# Altium schematic symbol library Analog_Switch.SchLib: 124 symbols (part 2 of 2)
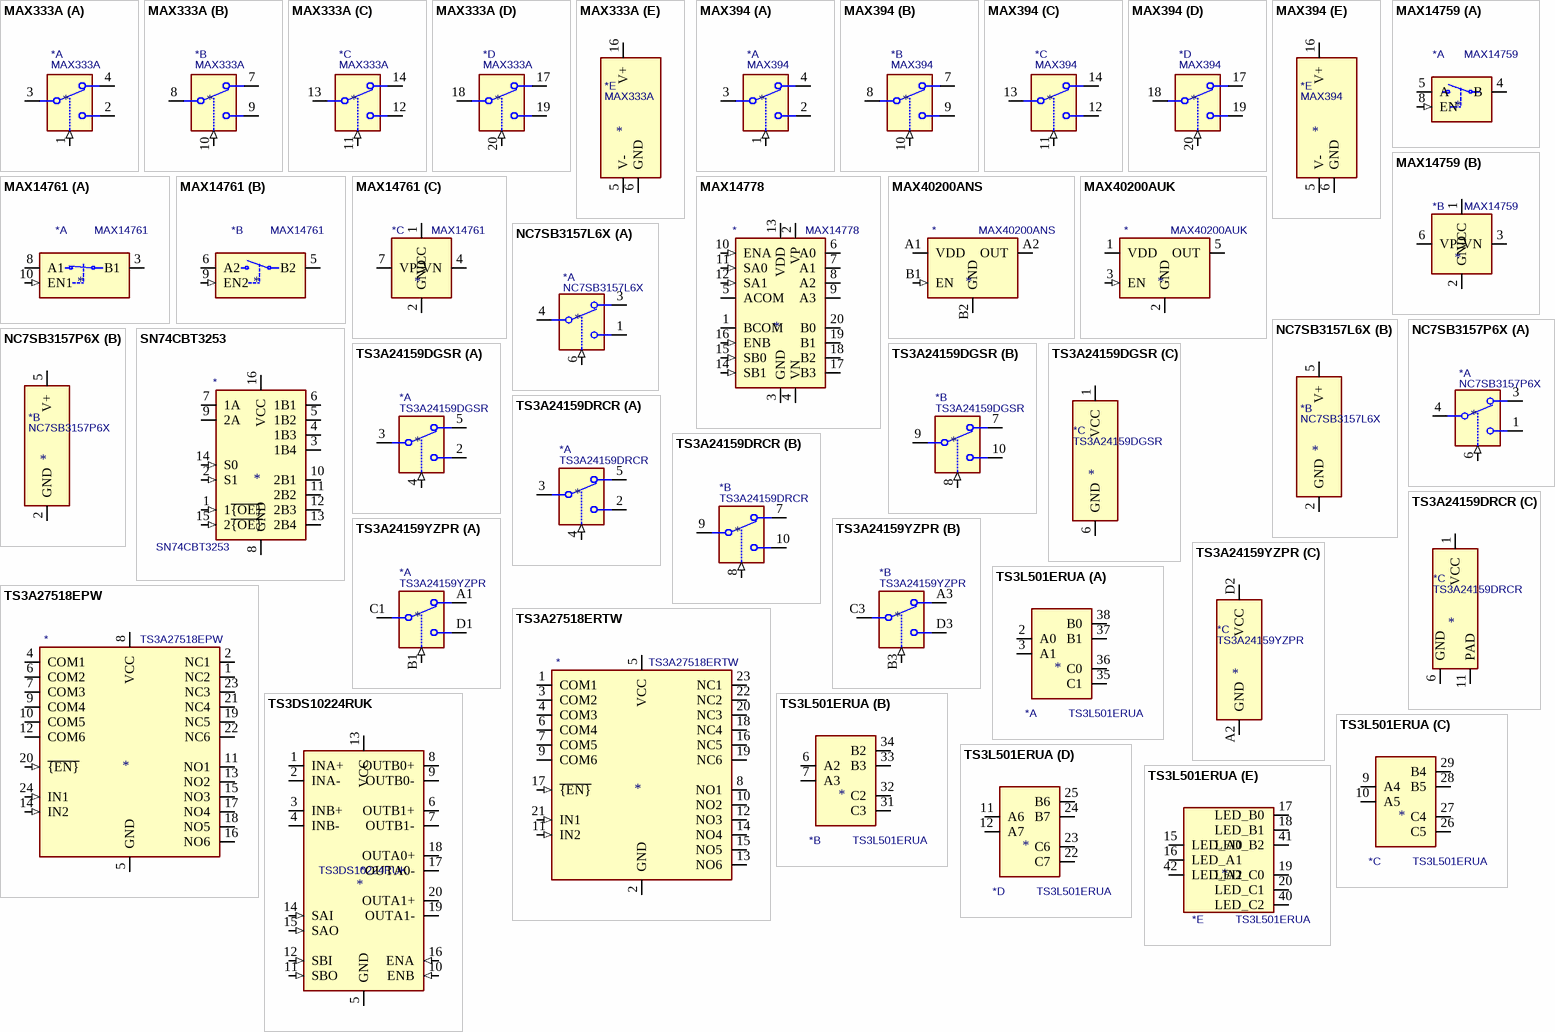
[diagram p9: symbols MAX333A to TS3L501ERUA]

## MAX14759
designator *  value MAX14759
ki_keywords: analog switch low resistance above below rails; ki_description: Above- and Below-the-Rails Low On-Resistance Analog Switches, max 2 Ohms On-Resistance, TDFN-8; ki_fp_filters: DFN*3x3mm*P0.65mm*; Footprint: Package_DFN_QFN:DFN-8-1EP_3x3mm_P0.65mm_EP1.55x2.4mm; Supplier: https://datasheets.maximintegrated.com/en/ds/MAX14759-MAX14763.pdf
footprint DFN-8-1EP_3x3mm_P0.65mm_EP1.55x2.4mm
part A pins: 4 B, 5 A, 8 EN (in)
part B pins: 1 VCC (power), 2 GND (power), 3 VN, 6 VP, 7 NC (in) hidden, 9 VN hidden

## MAX14761
designator *  value MAX14761
ki_keywords: analog switch low resistance above below rails; ki_description: Above- and Below-the-Rails Low On-Resistance Analog Switches, max 2 Ohm On resistor, TDFN-10; ki_fp_filters: DFN*3x3mm*P0.5mm*; Footprint: Package_DFN_QFN:DFN-10-1EP_3x3mm_P0.5mm_EP1.55x2.48mm; Supplier: https://datasheets.maximintegrated.com/en/ds/MAX14759-MAX14763.pdf
footprint DFN-10-1EP_3x3mm_P0.5mm_EP1.55x2.48mm
part A pins: 3 B1, 8 A1, 10 EN1 (in)
part B pins: 5 B2, 6 A2, 9 EN2 (in)
part C pins: 1 VCC (power), 2 GND (power), 4 VN, 7 VP, 11 VN hidden

## MAX14778
designator *  value MAX14778
ki_keywords: Analog Differential Multiplexer; ki_description: Dual +-25V Above- and Below-the-Rails 4:1 Analog Multiplexer, TQFN-20; ki_fp_filters: TQFN*1EP*5x5mm*P0.65mm*; Footprint: Package_DFN_QFN:TQFN-20-1EP_5x5mm_P0.65mm_EP3.1x3.1mm; Supplier: https://datasheets.maximintegrated.com/en/ds/MAX14778.pdf
footprint TQFN-20-1EP_5x5mm_P0.65mm_EP3.1x3.1mm
pins: 1 BCOM, 2 VP, 3 GND (power), 4 VN, 5 ACOM, 6 A0, 7 A1, 8 A2, 9 A3, 10 ENA (in), 11 SA0 (in), 12 SA1 (in), 13 VDD (power), 14 SB1 (in), 15 SB0 (in), 16 ENB (in), 17 B3, 18 B2, 19 B1, 20 B0, 21 VN hidden

## MAX40200ANS
designator *  value MAX40200ANS
ki_keywords: current switch; ki_description: Ideal Diode, Ultra-Low Voltage Drop, 1.5-5.5V, 1A, WLP-4; ki_fp_filters: WLP*0.73x0.73mm*Layout2x2*P0.35mm*; Footprint: Package_BGA:WLP-4_0.73x0.73mm_Layout2x2_P0.35mm_Ball0.22mm_Pad0.2mm_NSMD; Supplier: https://datasheets.maximintegrated.com/en/ds/MAX40200.pdf
footprint WLP-4_0.73x0.73mm_Layout2x2_P0.35mm_Ball0.22mm_Pad0.2mm_NSMD
pins: A1 VDD (power), A2 OUT, B1 EN (in), B2 GND (power)

## MAX40200AUK
designator *  value MAX40200AUK
ki_keywords: current switch; ki_description: Ideal Diode, Ultra-Low Voltage Drop, 1.5-5.5V, 1A, SOT-23-5; ki_fp_filters: SOT?23*; Footprint: Package_TO_SOT_SMD:SOT-23-5; Supplier: https://datasheets.maximintegrated.com/en/ds/MAX40200.pdf
footprint SOT-23-5
pins: 1 VDD (power), 2 GND (power), 3 EN (in), 4 NC (in) hidden, 5 OUT

## NC7SB3157L6X
designator *  value NC7SB3157L6X
ki_keywords: CMOS Analog Switch; ki_description: Single SPDT Low-Voltage Analog Switch or 2:1 Multiplexer/De-Multiplexer Bus Switch, 10Ohm Ron, MicroPak-6; ki_fp_filters: Fairchild*MicroPak*1.0x1.45mm*P0.5mm*; Footprint: Package_SON:Fairchild_MicroPak-6_1.0x1.45mm_P0.5mm; Supplier: https://www.onsemi.com/pub/Collateral/NC7SB3157-D.PDF
footprint Fairchild_MicroPak-6_1.0x1.45mm_P0.5mm
part A pins: 1, 3, 4, 6 (in)
part B pins: 2 GND (power), 5 V+ (power)

## NC7SB3157P6X
designator *  value NC7SB3157P6X
ki_keywords: CMOS Analog Switch; ki_description: Single SPDT Low-Voltage Analog Switch or 2:1 Multiplexer/De-Multiplexer Bus Switch, 10Ohm Ron, SC-70-6; ki_fp_filters: *SC?70*; Footprint: Package_TO_SOT_SMD:SOT-363_SC-70-6; Supplier: https://www.onsemi.com/pub/Collateral/NC7SB3157-D.PDF
footprint SOT-363_SC-70-6
part A pins: 1, 3, 4, 6 (in)
part B pins: 2 GND (power), 5 V+ (power)

## SN74CBT3253
designator *  value SN74CBT3253
ki_keywords: TTL Analog Multiplexer; ki_description: Dual 1 to 4 Analog Multiplexer; ki_fp_filters: SOIC*3.9x9.9mm*P1.27mm* TSSOP*4.4x5mm*P0.65mm* SSOP*5.3x6.2mm*P0.65mm*; Supplier: http://www.ti.com/lit/gpn/sn74cbt3253
pins: 1 1~{{OE}} (in), 2 S1 (in), 3 1B4 (io), 4 1B3 (io), 5 1B2 (io), 6 1B1 (io), 7 1A (io), 8 GND (power), 9 2A (io), 10 2B1 (io), 11 2B2 (io), 12 2B3 (io), 13 2B4 (io), 14 S0 (in), 15 2~{{OE}} (in), 16 VCC (power)

## TS3A24159DGSR
designator *  value TS3A24159DGSR
ki_keywords: switch analog SPDT; ki_description: Dual SPDT 0.3Ω Bidirectional Analog Switch, TSSOP-10; ki_fp_filters: *SSOP*3x3mm*P0.5mm*; Footprint: Package_SO:TSSOP-10_3x3mm_P0.5mm; Supplier: http://www.ti.com/lit/ds/symlink/ts3a24159.pdf
footprint TSSOP-10_3x3mm_P0.5mm
part A pins: 2, 3, 4 (in), 5
part B pins: 7, 8 (in), 9, 10
part C pins: 1 VCC (power), 6 GND (power)

## TS3A24159DRCR
designator *  value TS3A24159DRCR
ki_keywords: switch analog SPDT; ki_description: Dual SPDT 0.3Ω Bidirectional Analog Switch, VSON-10; ki_fp_filters: Texas*S?PVSON?N10*; Footprint: Package_SON:Texas_S-PVSON-N10; Supplier: http://www.ti.com/lit/ds/symlink/ts3a24159.pdf
footprint Texas_S-PVSON-N10
part A pins: 2, 3, 4 (in), 5
part B pins: 7, 8 (in), 9, 10
part C pins: 1 VCC (power), 6 GND (power), 11 PAD

## TS3A24159YZPR
designator *  value TS3A24159YZPR
ki_keywords: switch analog SPDT; ki_description: Dual SPDT 0.3Ω Bidirectional Analog Switch, DSBGA-10; ki_fp_filters: Texas*DSBGA*1.36x1.86mm*Layout3x4*P0.5mm*; Footprint: Package_BGA:Texas_DSBGA-10_1.36x1.86mm_Layout3x4_P0.5mm; Supplier: http://www.ti.com/lit/ds/symlink/ts3a24159.pdf
footprint Texas_DSBGA-10_1.36x1.86mm_Layout3x4_P0.5mm
part A pins: A1, B1 (in), C1, D1
part B pins: A3, B3 (in), C3, D3
part C pins: A2 GND (power), D2 VCC (power)

## TS3A27518EPW
designator *  value TS3A27518EPW
ki_keywords: SPI qSPI multiplexer demux; ki_description: 6-channel analog mux, TSSOP-24; ki_fp_filters: TSSOP*4.4x7.8mm*P0.65mm*; Footprint: Package_SO:TSSOP-24_4.4x7.8mm_P0.65mm; Supplier: http://www.ti.com/lit/ds/symlink/ts3a27518e.pdf
footprint TSSOP-24_4.4x7.8mm_P0.65mm
pins: 1 NC2 (io), 2 NC1 (io), 3 N.C. (in) hidden, 4 COM1 (io), 5 GND (power), 6 COM2 (io), 7 COM3 (io), 8 VCC (power), 9 COM4 (io), 10 COM5 (io), 11 NO1 (io), 12 COM6 (io), 13 NO2 (io), 14 IN2 (in), 15 NO3 (io), 16 NO6 (io), 17 NO4 (io), 18 NO5 (io), 19 NC5 (io), 20 ~{{EN}} (in), 21 NC4 (io), 22 NC6 (io), 23 NC3 (io), 24 IN1 (in)

## TS3A27518ERTW
designator *  value TS3A27518ERTW
ki_keywords: SPI qSPI multiplexer demux; ki_description: 6-channel analog mux, WQFN-24; ki_fp_filters: WQFN*4x4mm*P0.5mm*; Footprint: Package_DFN_QFN:WQFN-24-1EP_4x4mm_P0.5mm_EP2.6x2.6mm; Supplier: http://www.ti.com/lit/ds/symlink/ts3a27518e.pdf
footprint WQFN-24-1EP_4x4mm_P0.5mm_EP2.6x2.6mm
pins: 1 COM1 (io), 2 GND (power), 3 COM2 (io), 4 COM3 (io), 5 VCC (power), 6 COM4 (io), 7 COM5 (io), 8 NO1 (io), 9 COM6 (io), 10 NO2 (io), 11 IN2 (in), 12 NO3 (io), 13 NO6 (io), 14 NO4 (io), 15 NO5 (io), 16 NC5 (io), 17 ~{{EN}} (in), 18 NC4 (io), 19 NC6 (io), 20 NC3 (io), 21 IN1 (in), 22 NC2 (io), 23 NC1 (io), 24 N.C. (in) hidden, 25 GND hidden

## TS3DS10224RUK
designator *  value TS3DS10224RUK
ki_keywords: multiplexer demultiplexer 1:4 differential; ki_description: High-Speed Differential Crosspoint, WQFN-20; ki_fp_filters: WQFN*1EP*3x3mm*P0.4mm*; Footprint: Package_DFN_QFN:WQFN-20-1EP_3x3mm_P0.4mm_EP1.7x1.7mm_ThermalVias; Supplier: http://www.ti.com/lit/ds/symlink/ts3ds10224.pdf
footprint WQFN-20-1EP_3x3mm_P0.4mm_EP1.7x1.7mm_ThermalVias
pins: 1 INA+ (io), 2 INA- (io), 3 INB+ (io), 4 INB- (io), 5 GND (power), 6 OUTB1+ (io), 7 OUTB1- (io), 8 OUTB0+ (io), 9 OUTB0- (io), 10 ENB (in), 11 SBO (in), 12 SBI (in), 13 VCC (power), 14 SAI (in), 15 SAO (in), 16 ENA (in), 17 OUTA0- (io), 18 OUTA0+ (io), 19 OUTA1- (io), 20 OUTA1+ (io)

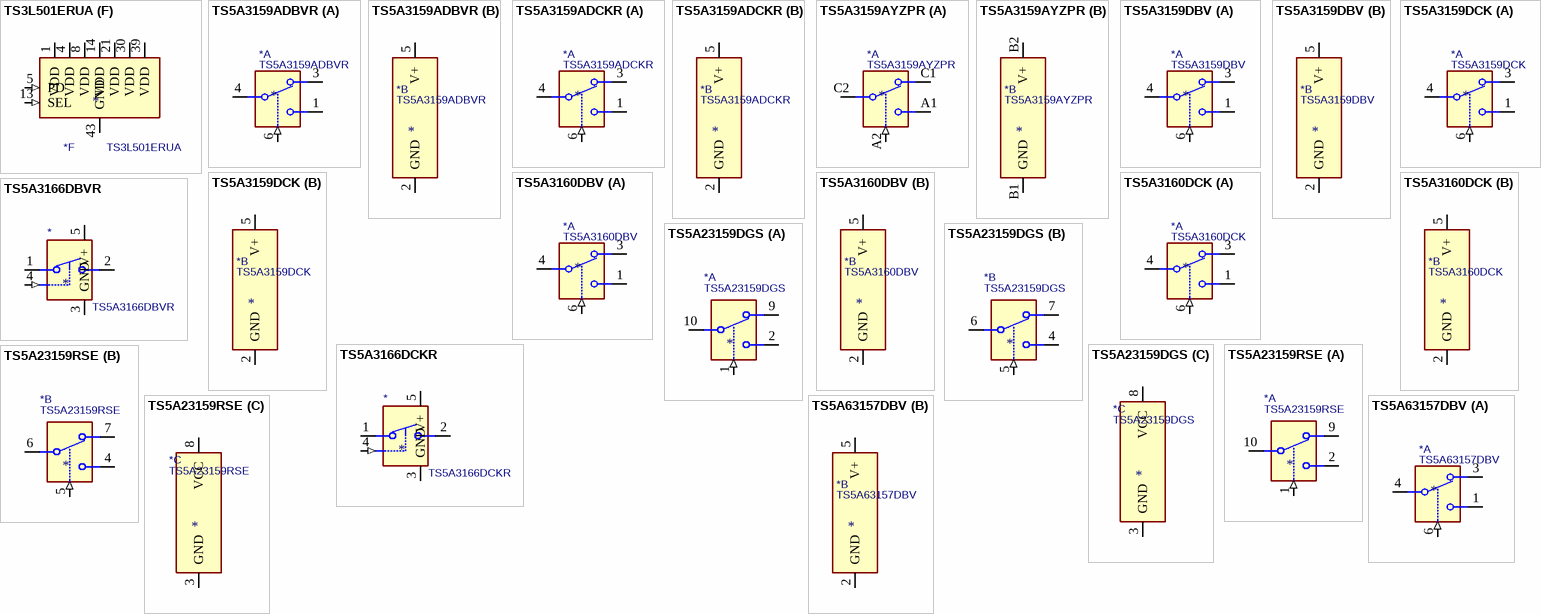
[diagram p8: symbols TS3L501ERUA to TS5A63157DBV]

## TS3L501ERUA
designator *  value TS3L501ERUA
ki_keywords: gbit base-t lvds lvpecl video; ki_description: 8-Channel SPDT/16-Bit to 8-Bit Multiplexer and Demultiplexer, Ethernet LAN Switch With Power-Down Mode, WQFN-42; ki_fp_filters: WQFN*1EP*3.5x9mm*P0.5mm*; Footprint: Package_DFN_QFN:WQFN-42-1EP_3.5x9mm_P0.5mm_EP2.05x7.55mm; Supplier: http://www.ti.com/lit/ds/symlink/ts3l501e.pdf
footprint WQFN-42-1EP_3.5x9mm_P0.5mm_EP2.05x7.55mm
part A pins: 2 A0 (io), 3 A1 (io), 35 C1 (io), 36 C0 (io), 37 B1 (io), 38 B0 (io)
part B pins: 6 A2 (io), 7 A3 (io), 31 C3 (io), 32 C2 (io), 33 B3 (io), 34 B2 (io)
part C pins: 9 A4 (io), 10 A5 (io), 26 C5 (io), 27 C4 (io), 28 B5 (io), 29 B4 (io)
part D pins: 11 A6 (io), 12 A7 (io), 22 C7 (io), 23 C6 (io), 24 B7 (io), 25 B6 (io)
part E pins: 15 LED_A0 (io), 16 LED_A1 (io), 17 LED_B0 (io), 18 LED_B1 (io), 19 LED_C0 (io), 20 LED_C1 (io), 40 LED_C2 (io), 41 LED_B2 (io), 42 LED_A2 (io)
part F pins: 1 VDD (power), 4 VDD (power), 5 PD (in), 8 VDD (power), 13 SEL (in), 14 VDD (power), 21 VDD (power), 30 VDD (power), 39 VDD (power), 43 GND (power)

## TS5A3159ADBVR
designator *  value TS5A3159ADBVR
ki_keywords: Analog Switch; ki_description: Single SPDT Analog Switch, 1.65-V to 5.5-V Single-Supply Operation, 1Ohm Ron, SOT-23-6; ki_fp_filters: SOT?23*; Footprint: Package_TO_SOT_SMD:SOT-23-6; Supplier: http://www.ti.com/lit/ds/symlink/ts5a3159a.pdf
footprint SOT-23-6
part A pins: 1, 3, 4, 6 (in)
part B pins: 2 GND (power), 5 V+ (power)

## TS5A3159ADCKR
designator *  value TS5A3159ADCKR
ki_keywords: Analog Switch; ki_description: Single SPDT Analog Switch, 1.65-V to 5.5-V Single-Supply Operation, 1Ohm Ron, SC-70-6; ki_fp_filters: *SC?70*; Footprint: Package_TO_SOT_SMD:SOT-363_SC-70-6; Supplier: http://www.ti.com/lit/ds/symlink/ts5a3159a.pdf
footprint SOT-363_SC-70-6
part A pins: 1, 3, 4, 6 (in)
part B pins: 2 GND (power), 5 V+ (power)

## TS5A3159AYZPR
designator *  value TS5A3159AYZPR
ki_keywords: Analog Switch; ki_description: Single SPDT Analog Switch, 1.65-V to 5.5-V Single-Supply Operation, 1Ohm Ron, DSBGA-6; ki_fp_filters: Texas*DSBGA*0.9x1.4mm*2x3*P0.5mm*; Footprint: Package_BGA:Texas_DSBGA-6_0.9x1.4mm_Layout2x3_P0.5mm; Supplier: http://www.ti.com/lit/ds/symlink/ts5a3159a.pdf
footprint Texas_DSBGA-6_0.9x1.4mm_Layout2x3_P0.5mm
part A pins: A1, A2 (in), C1, C2
part B pins: B1 GND (power), B2 V+ (power)

## TS5A3159DBV
designator *  value TS5A3159DBV
ki_keywords: Analog Switch; ki_description: Single SPDT Analog Switch, 1.65-V to 5.5-V Single-Supply Operation, 1Ohm Ron, SOT-23-6; ki_fp_filters: SOT?23*; Footprint: Package_TO_SOT_SMD:SOT-23-6; Supplier: http://www.ti.com/lit/ds/symlink/ts5a3159.pdf
footprint SOT-23-6
part A pins: 1, 3, 4, 6 (in)
part B pins: 2 GND (power), 5 V+ (power)

## TS5A3159DCK
designator *  value TS5A3159DCK
ki_keywords: Analog Switch SPDT; ki_description: Single SPDT Analog Switch, 1.65-V to 5.5-V Single-Supply Operation, 1Ohm Ron, SC-70-6; ki_fp_filters: *SC?70*; Footprint: Package_TO_SOT_SMD:SOT-363_SC-70-6; Supplier: http://www.ti.com/lit/ds/symlink/ts5a3159.pdf
footprint SOT-363_SC-70-6
part A pins: 1, 3, 4, 6 (in)
part B pins: 2 GND (power), 5 V+ (power)

## TS5A3160DBV
designator *  value TS5A3160DBV
ki_keywords: Analog Switch; ki_description: Single SPDT Analog Switch, 1.65-V to 5.5-V Single-Supply Operation, 1Ohm Ron, SOT-23-6; ki_fp_filters: SOT?23*; Footprint: Package_TO_SOT_SMD:SOT-23-6; Supplier: http://www.ti.com/lit/ds/symlink/ts5a3160.pdf
footprint SOT-23-6
part A pins: 1, 3, 4, 6 (in)
part B pins: 2 GND (power), 5 V+ (power)

## TS5A3160DCK
designator *  value TS5A3160DCK
ki_keywords: Analog Switch; ki_description: Single SPDT Analog Switch, 1.65-V to 5.5-V Single-Supply Operation, 1Ohm Ron, SC-70-6; ki_fp_filters: *SC?70*; Footprint: Package_TO_SOT_SMD:SOT-363_SC-70-6; Supplier: http://www.ti.com/lit/ds/symlink/ts5a3160.pdf
footprint SOT-363_SC-70-6
part A pins: 1, 3, 4, 6 (in)
part B pins: 2 GND (power), 5 V+ (power)

## TS5A3166DBVR
designator *  value TS5A3166DBVR
ki_keywords: Analog Switch SPST; ki_description: Single SPST Analog Switch, 5-V/3.3-V, normally OFF, 0.9Ohm Ron, SOT-23-5; ki_fp_filters: SOT?23*; Footprint: Package_TO_SOT_SMD:SOT-23-5; Supplier: http://www.ti.com/lit/ds/symlink/ts5a3166.pdf
footprint SOT-23-5
pins: 1, 2, 3 GND (power), 4 (in), 5 V+ (power)

## TS5A3166DCKR
designator *  value TS5A3166DCKR
ki_keywords: Analog Switch SPST; ki_description: Single SPST Analog Switch, 5-V/3.3-V, normally OFF, 0.9Ohm Ron, SC-70; ki_fp_filters: *SC?70?5*; Footprint: Package_TO_SOT_SMD:SOT-353_SC-70-5; Supplier: http://www.ti.com/lit/ds/symlink/ts5a3166.pdf
footprint SOT-353_SC-70-5
pins: 1, 2, 3 GND (power), 4 (in), 5 V+ (power)

## TS5A23159DGS
designator *  value TS5A23159DGS
ki_keywords: switch analog SPDT; ki_description: Dual SPDT 1ohm Bidirectional Analog Switch with Off protection, VSSOP-10; ki_fp_filters: VSSOP*3x3mm*P0.5mm*; Footprint: Package_SO:VSSOP-10_3x3mm_P0.5mm; Supplier: http://www.ti.com/lit/ds/symlink/ts5a23159.pdf
footprint VSSOP-10_3x3mm_P0.5mm
part A pins: 1 (in), 2, 9, 10
part B pins: 4, 5 (in), 6, 7
part C pins: 3 GND (power), 8 VCC (power)

## TS5A23159RSE
designator *  value TS5A23159RSE
ki_keywords: switch analog SPDT; ki_description: Dual SPDT 1ohm Bidirectional Analog Switch with Off protection, UQFN-10; ki_fp_filters: Texas?R*PUQFN*; Footprint: Package_DFN_QFN:Texas_R-PUQFN-N10; Supplier: http://www.ti.com/lit/ds/symlink/ts5a23159.pdf
footprint Texas_R-PUQFN-N10
part A pins: 1 (in), 2, 9, 10
part B pins: 4, 5 (in), 6, 7
part C pins: 3 GND (power), 8 VCC (power)

## TS5A63157DBV
designator *  value TS5A63157DBV
ki_keywords: Analog Switch; ki_description: Single SPDT Analog Switch, 5V/3.3V Single-Supply Operation, 12Ohm Ron, SOT-23-6; ki_fp_filters: SOT?23*; Footprint: Package_TO_SOT_SMD:SOT-23-6; Supplier: https://www.ti.com/lit/ds/symlink/ts5a63157.pdf
footprint SOT-23-6
part A pins: 1, 3, 4, 6 (in)
part B pins: 2 GND (power), 5 V+ (power)